# Altium footprint library SOT230P700X180-4L.PcbLib: 1 footprints
Each footprint in its own frame and in the unit in brackets; x right, y up, seen from the top. Pads: shape width x height; smd on the part's side, far side on the other; paste and mask are expansions set on the pad; w line width, h text height; cw(c..) or ccw(c..) is an arc to the next point about the centre after c.
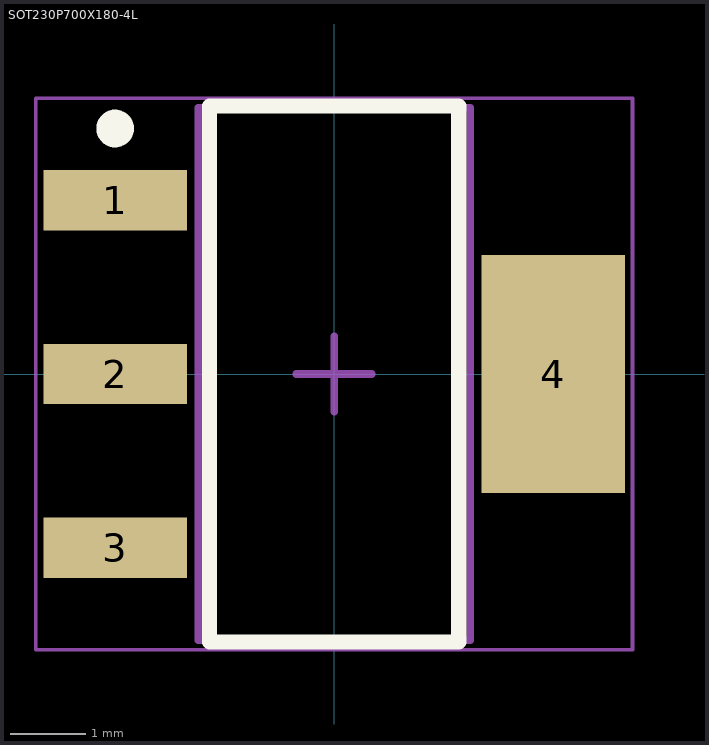
[diagram p0: the footprint, top view; thin cyan lines are the x and y axes]

## SOT230P700X180-4L [mm] "SOT223, 4-Leads, Body 6.70x7.00mm (avg), Pitch 2.30mm, IPC High Density"
height 1.8
pads (4):
  rect 1.9x0.8 smd: 1(-2.9,2.3) 2(-2.9,0) 3(-2.9,-2.3)
  rect 1.9x3.15 smd: 4(2.9,0)
Top Overlay:
  circle w0.25: c-2.9,3.25 r0.125
  lines w0.2: -1.65,-3.55 -1.65,3.55 1.65,3.55 1.65,-3.55 -1.65,-3.55
Mechanical 13:
  lines w0.1: -1.8,-3.525 -1.8,3.525 1.8,3.525 1.8,-3.525 -1.8,-3.525
Mechanical 15:
  lines w0.05: -3.95,-3.65 -3.95,3.65 3.95,3.65 3.95,-3.65 -3.95,-3.65
  lines w0.1: -0.5,0 0.5,0 ; 0,-0.5 0,0.5
3D body: height 1.7, standoff 0, extent -3.48,-3.25 3.48,3.25